# EAGLE library part LTC4071 (library ERIC)
Li-Ion/Polymer Shunt Battery Charger System with Low Battery Disconnect
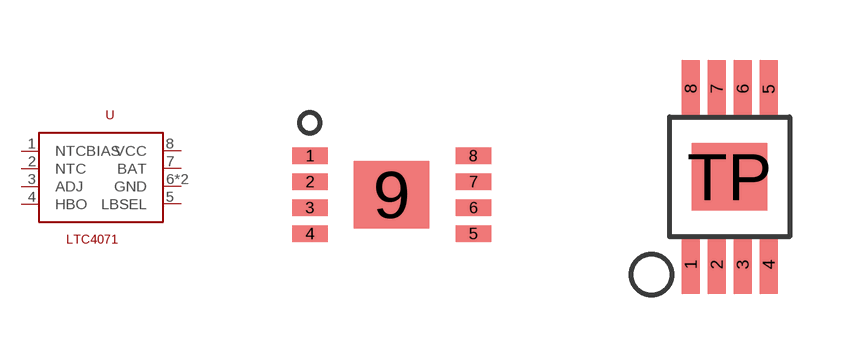
[diagram p9: symbol with the pads of MS8E_PACKAGE; footprints MS8E_PACKAGE, MSOP_8_LEAD_EXPOSED_DIE_PAD]

Designator prefix U

## LTC4071MS8E  [MS8E_PACKAGE]
1  NTCBIAS
2  NTC
3  ADJ
4  HBO
5  LBSEL
6  GND  pwr
7  BAT  sup
8  VCC  pwr
9  GND  pwr

## LTC4071MSOP  [MSOP_8_LEAD_EXPOSED_DIE_PAD]
1  NTCBIAS
2  NTC
3  ADJ
4  HBO
5  LBSEL
6  GND  pwr
7  BAT  sup
8  VCC  pwr
TP  GND  pwr

## Footprint MS8E_PACKAGE (pad centres in mm)
MS8E Package 8-Lead Plastic MSOP, Exposed Die Pad (Reference LTC DWG # 05-08-1662 Rev I) Please refer to http://www.linear.com/designtools/packaging/ for the most recent package drawings.
smd 0.889 x 0.42: 1 -2.045,0.975; 2 -2.045,0.325; 3 -2.045,-0.325; 4 -2.045,-0.975; 5 2.045,-0.975; 6 2.045,-0.325; 7 2.045,0.325; 8 2.045,0.975
smd 1.88 x 1.68: 9 0,0

## Footprint MSOP_8_LEAD_EXPOSED_DIE_PAD (pad centres in mm)
smd 0.45 x 1.45: 1 -0.975,-2.2; 2 -0.325,-2.2; 3 0.325,-2.2; 4 0.975,-2.2; 5 0.975,2.2; 6 0.325,2.2; 7 -0.325,2.2; 8 -0.975,2.2
smd 1.88 x 1.68: TP 0,0